# EAGLE library part ESP2866-ESP-01 (library p.peter-periphery)
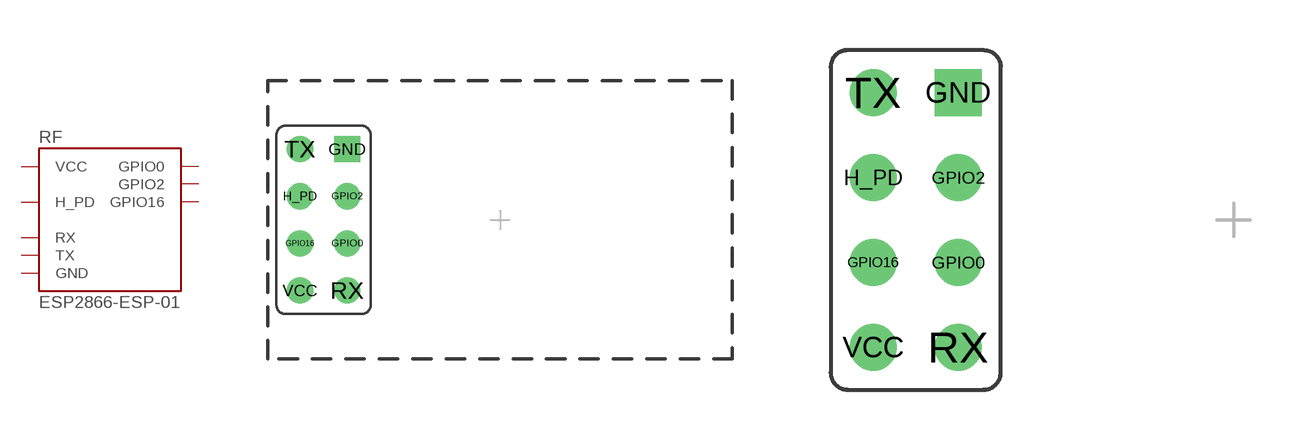
[diagram p13: symbol with the pads of ESP8266-ESP-01; footprints ESP8266-ESP-01, ESP8266-ESP-01-NOSILK]

Designator prefix RF

## ESP2866-ESP-01THT  [ESP8266-ESP-01]
GND  GND
GPIO0  GPIO0
GPIO2  GPIO2
GPIO16  GPIO16
H_PD  H_PD
RX  RX
TX  TX
VCC  VCC

## ESP2866-ESP-01THT-NOSILK  [ESP8266-ESP-01-NOSILK]
Pads as for ESP8266-ESP-01

## Footprint ESP8266-ESP-01 (pad centres in mm)
drill 0.9 square: GND 1.27,3.81
drill 0.9: GPIO0 1.27,-1.27; GPIO2 1.27,1.27; GPIO16 -1.27,-1.27; H_PD -1.27,1.27; RX 1.27,-3.81; TX -1.27,3.81; VCC -1.27,-3.81

## Footprint ESP8266-ESP-01-NOSILK (pad centres in mm)
drill 0.9 square: GND 1.27,3.81
drill 0.9: GPIO0 1.27,-1.27; GPIO2 1.27,1.27; GPIO16 -1.27,-1.27; H_PD -1.27,1.27; RX 1.27,-3.81; TX -1.27,3.81; VCC -1.27,-3.81